# Altium schematic symbol library Harpis.SchLib: 7 symbols
Pins are listed as number, name and electrical type; pins without a type are passive.

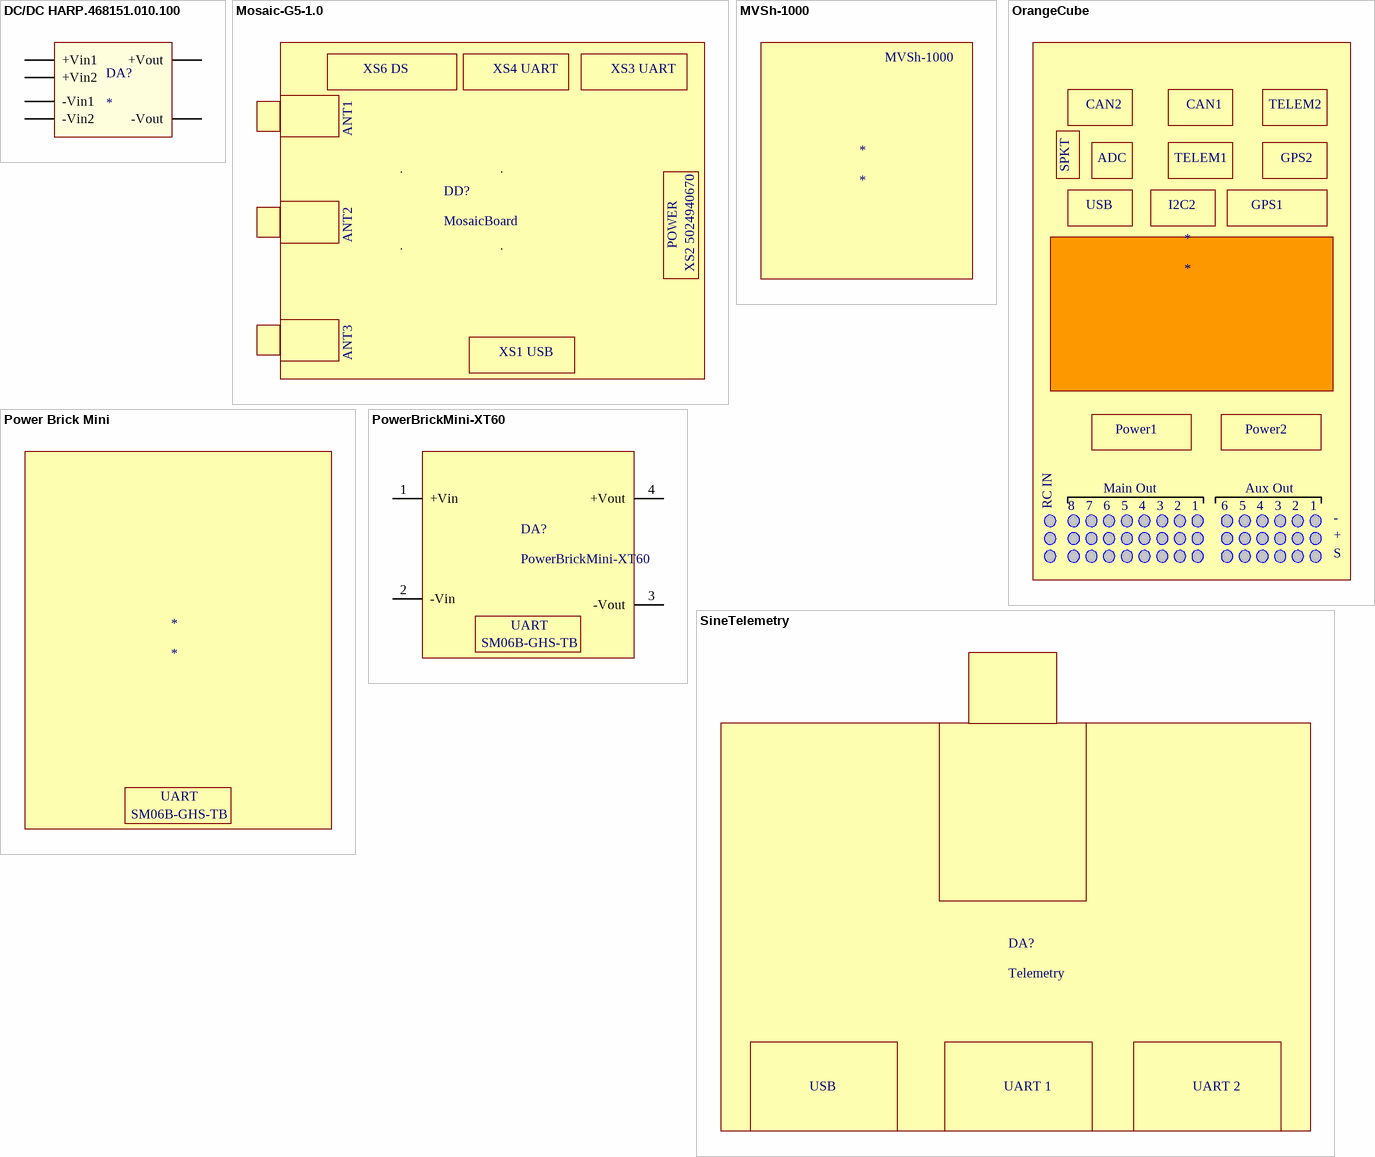
[diagram p0: symbols DC/DC HARP.468151.010.100 to SineTelemetry]

## DC/DC HARP.468151.010.100
designator DA?
footprint DC/DC HARP.468151.010.100
pins: 1 +Vin1, 2 +Vin2, 3 -Vin1, 4 -Vin2, 5 +Vout, 6 -Vout

## Mosaic-G5-1.0
designator DD?, comment MosaicBoard
footprint MosaicBoard
pins: 1, 2, 3, 4
text: XS6 DS; XS4 UART; XS3 UART; ANT1; ANT2; POWER; XS2 5024940670; ANT3; XS1 USB

## MVSh-1000
designator *
footprint MVSh-1000

## OrangeCube
designator *
footprint OrangeCube
text: CAN2; CAN1; TELEM2; ADC; TELEM1; GPS2; SPKT; USB; I2C2; GPS1; Power1; Power2; Main Out; Aux Out; RC IN; 8; 7; 6; 5; 4; 3; 2; 1; -; +; S

## Power Brick Mini
designator *
footprint Power Brick Mini
text: UART; SM06B-GHS-TB

## PowerBrickMini-XT60
designator DA?
footprint PowerBrickMini-XT60
pins: 1 +Vin, 2 -Vin, 3 -Vout, 4 +Vout
text: UART; SM06B-GHS-TB

## SineTelemetry
designator DA?, comment Telemetry
footprint SineTelemetry
text: USB; UART 1; UART 2